# Altium schematic symbol library andylib.SchLib: 144 symbols (part 2 of 2)
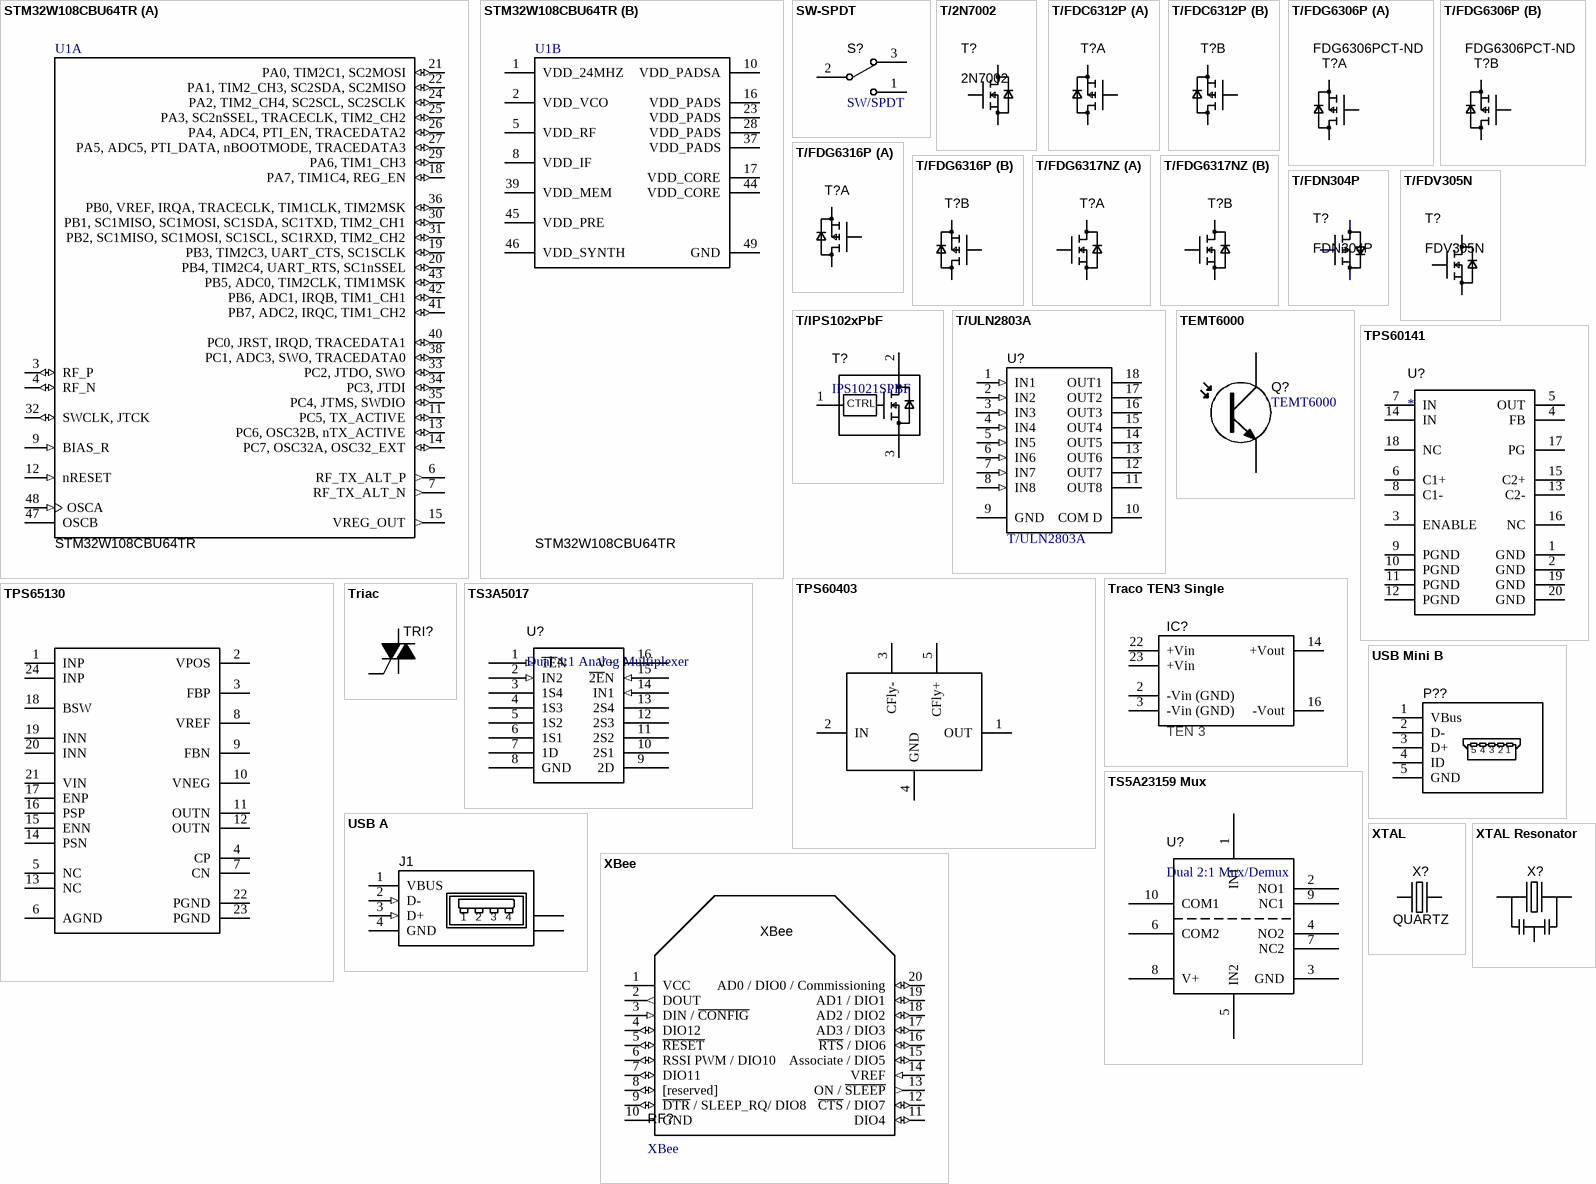
[diagram p5: symbols STM32W108CBU64TR to XTAL Resonator]

## USB Mini B
designator P??  (value not drawn)
Header, 5-Pin; LatestRevisionDate: 17-Jul-2002; LatestRevisionNote: Re-released for DXP Platform.; Publisher: Altium Limited
footprint USB Mini B - Short
footprint USB Mini B - Long (Mini USB Socket B - Long version)
pins: 1 VBus, 2 D-, 3 D+, 4 ID, 5 GND

## XBee
designator RF?
footprint XBee
pins: 1 VCC (power) "Power supply", 2 DOUT (out) "UART Data Out", 3 DIN / ~{CONFIG} (in) "UART Data In", 4 DIO12 (io) "Digital I/O 12", 5 ~{RESET} (io) "Module Reset (reset pulse must be at least 200 ns)", 6 RSSI PWM / DIO10 (io) "RX Signal Strength Indicator / Digital IO", 7 DIO11 (io) "Digital I/O 11", 8 [reserved] (io) "Do not connect", 9 ~{DTR} / SLEEP_RQ/ DIO8 (io) "Pin Sleep Control Line or Digital IO 8", 10 GND (power) "Ground", 11 DIO4 (io) "Digital I/O 4", 12 ~{CTS} / DIO7 (io) "Clear-to-Send Flow Control or Digital I/O 7. CTS, if enabled, is an output.", 13 ON / ~{SLEEP} (out) "Module Status Indicator or Digital I/O 9", 14 VREF (in) "Not used for EM250. Used for programmable secondary processor.  For compatibility with other XBEE modules, we recommend connecting this pin voltage reference if Analog sampling is desired.  Otherwise, connect to GND.", 15 Associate / DIO5 (io) "Associated Indicator, Digital I/O 5", 16 ~{RTS} / DIO6 (io) "Request-to-Send Flow Control, Digital I/O 6. RTS, if enabled, is an input.", 17 AD3 / DIO3 (io) "Analog Input 3 or Digital I/O 3", 18 AD2 / DIO2 (io) "Analog Input 2 or Digital I/O 2", 19 AD1 / DIO1 (io) "Analog Input 1 or Digital I/O 1", 20 AD0 / DIO0 / Commissioning (io) "Analog Input 0, Digital IO 0, or Commissioning Button"

## XTAL
designator X?, comment QUARTZ
footprint XTAL/ABM3 (Crystal, SMD; 2 Leads; Body 5 x 3.2 x 1.3 mm (LxWxH))
pins: 1, 2

## XTAL Resonator
designator X?, comment QUARTZ  (value not drawn)
footprint XTAL-AWSCR-MT (Abracon RES CER 4.7 x 4.1 mm)
pins: 1, 2, 3